# EAGLE library part ISO1050 (library Industrialberry)
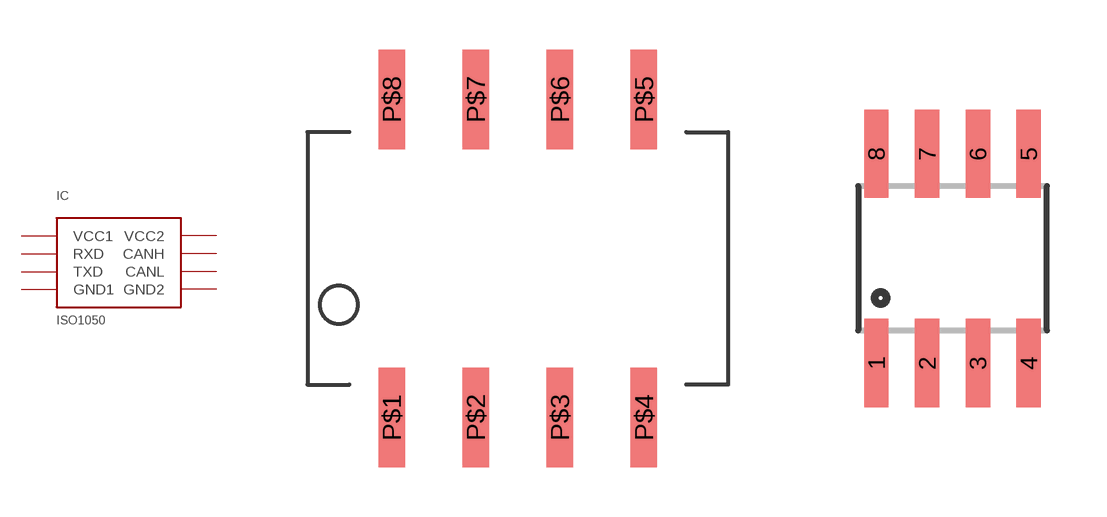
[diagram p0: symbol with the pads of DUB8; footprints DUB8, SO-08]

Designator prefix IC

## ISO1050DUB8  [DUB8]
P$1  VCC1
P$2  RXD
P$3  TXD
P$4  GND1
P$5  GND2
P$6  CANL
P$7  CANH
P$8  VCC2

## ISO1050SO-08  [SO-08]
1  VCC1
2  RXD
3  TXD
4  GND1
5  GND2
6  CANL
7  CANH
8  VCC2

## Footprint DUB8 (pad centres in mm)
smd 0.8 x 3: P$1 -3.81,-4.8; P$2 -1.27,-4.8; P$3 1.27,-4.8; P$4 3.81,-4.8; P$5 3.81,4.8; P$6 1.27,4.8; P$7 -1.27,4.8; P$8 -3.81,4.8

## Footprint SO-08 (pad centres in mm)
smd 0.61 x 2.21: 1 -1.905,-2.616; 2 -0.635,-2.616; 3 0.635,-2.616; 4 1.905,-2.616; 5 1.905,2.616; 6 0.635,2.616; 7 -0.635,2.616; 8 -1.905,2.616